# Altium footprint library PcbLib1.PcbLib: 7 footprints
Each footprint in its own frame and in the unit in brackets; x right, y up, seen from the top. Pads: shape width x height; smd on the part's side, far side on the other; paste and mask are expansions set on the pad; w line width, h text height; cw(c..) or ccw(c..) is an arc to the next point about the centre after c.
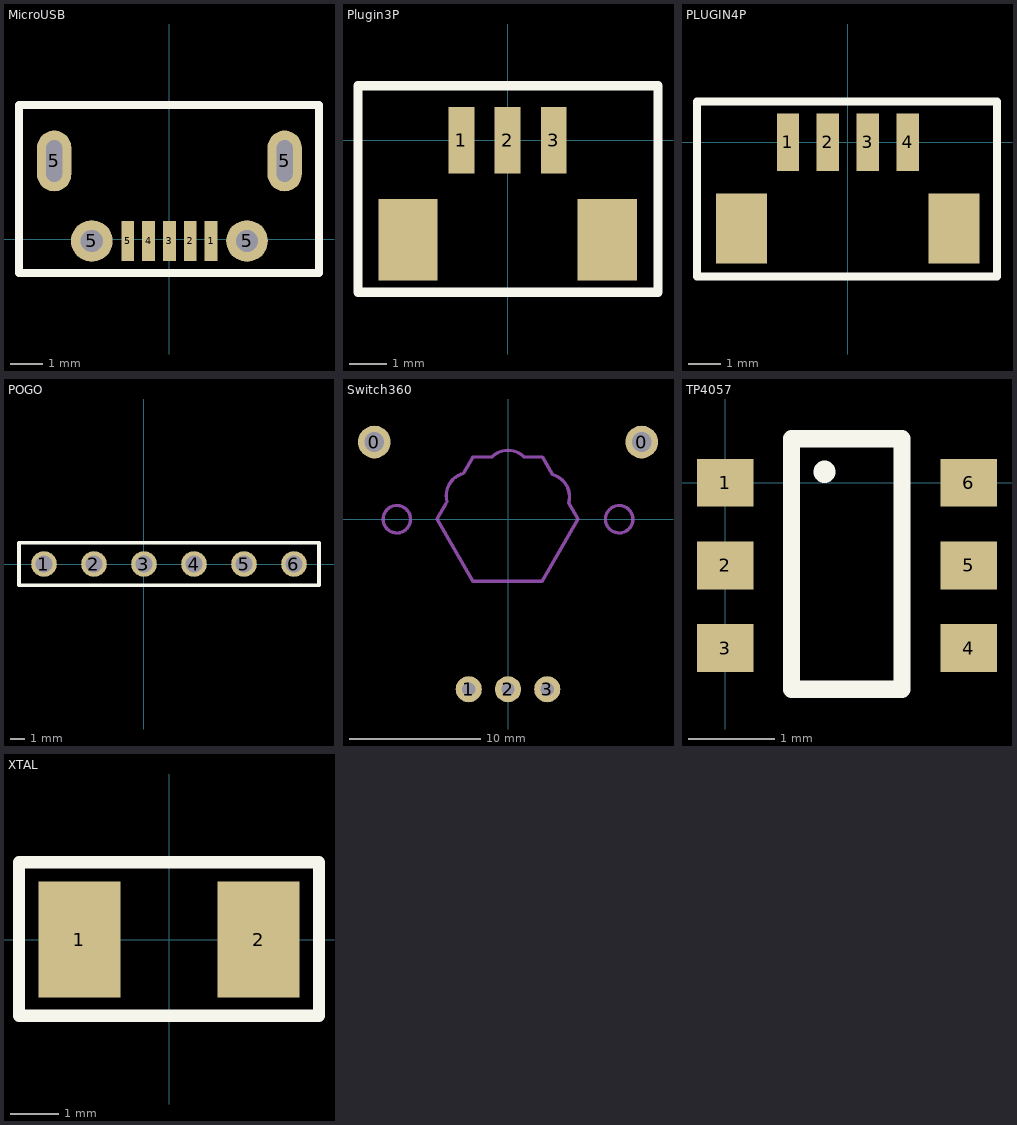
[diagram p0: the footprints below, top view; thin cyan lines are the x and y axes]

## MicroUSB [mm]
pads (9):
  rect 0.4x1.25 smd: 1(1.313,-0.062) 2(0.663,-0.062) 3(0.013,-0.062) 4(-0.637,-0.062) 5(-1.287,-0.062)
  oval 1.07x1.9 hole 0.5 slot 1.3 at 90 deg: 5(-3.587,2.438) 5(3.613,2.438)
  round 1.3 hole 0.7: 5(-2.412,-0.062) 5(2.438,-0.062)
Top Overlay:
  lines w0.254: -4.687,-1.063 -4.687,4.188 4.513,4.188 4.514,4.187 4.687,4.187 4.687,-1.063 4.437,-1.063 -4.687,-1.063

## Plugin3P [mm]
pads (5):
  rect 0.7x1.8 smd: 1(-1.25,0) 2(0,0) 3(1.25,0)
  rect 1.6x2.2 smd: ""(-2.7,-2.7) ""(2.7,-2.7)
Top Overlay:
  lines w0.254: -4.05,-4.125 4.075,-4.125 4.075,1.475 -3.8,1.475 -4.05,1.475 -4.05,-4.125

## PLUGIN4P [mm]
pads (6):
  rect 0.7x1.8 smd: 1(-1.875,0) 2(-0.625,0) 3(0.625,0) 4(1.875,0)
  rect 1.6x2.2 smd: ""(-3.325,-2.7) ""(3.325,-2.7)
Top Overlay:
  lines w0.254: -4.725,-4.2 4.675,-4.2 4.675,1.275 -4.725,1.275 -4.725,-4.2

## POGO [mm]
pads (6):
  round 1.8 hole 1.2: 1(-7,0) 2(-3.5,0) 3(0,0) 4(3.5,0) 5(7,0) 6(10.5,0)
Top Overlay:
  lines w0.254: -8.75,-1.5 -8.75,1.5 12.25,1.5 12.25,-1.5 -8.75,-1.5

## Switch360 [mm]
pads (5):
  round 2.5 hole 1.5: 0(-10.219,5.9) 0(10.219,5.9)
  round 2 hole 1: 1(-3,-13) 2(0,-13) 3(3,-13)
Mechanical 1:
  circle w0.254: c-8.5,0 r1.05
  circle w0.254: c8.5,0 r1.05
  lines w0.254: -4.662,1.335 cw(c-2.955,1.792) -3.412,3.5 ; -3.373,3.569 -2.69,4.75 -1.362,4.75 ; -1.25,4.75 cw(c0,3.5) 1.25,4.75 ; 1.295,4.75 2.623,4.75 3.394,3.415 cw(c2.937,1.708) 4.644,1.25 ; 4.67,1.206 5.352,0.025 2.595,-4.75 -2.662,-4.75 -5.419,0.025 -4.737,1.206 ; -4.737,1.206 -4.737,1.206

## TP4057 [mm]
pads (6):
  rect 0.65x0.55 smd: 1(0,0) 2(0,-0.95) 3(0,-1.9) 4(2.8,-1.9) 5(2.8,-0.95) 6(2.8,0)
Top Overlay:
  lines w0.2: 0.762,0.475 0.762,-2.375 2.032,-2.375 2.032,0.475 ; 0.762,0.508 2.032,0.508
  lines w0.254: 1.143,0.124 ccw(c1.016,0.127) 1.143,0.127

## XTAL [mm]
pads (2):
  rect 1.7x2.4 smd: 1(-1.85,0) 2(1.85,0)
Top Overlay:
  lines w0.254: -3.1,-1.575 -3.1,1.6 3.1,1.6 3.1,-1.575 -3.1,-1.575